# Altium integrated library TI Power Management Linear Regulator Single Channel LDO (0-350mA).IntLib: 1648 symbols (part 44 of 66)
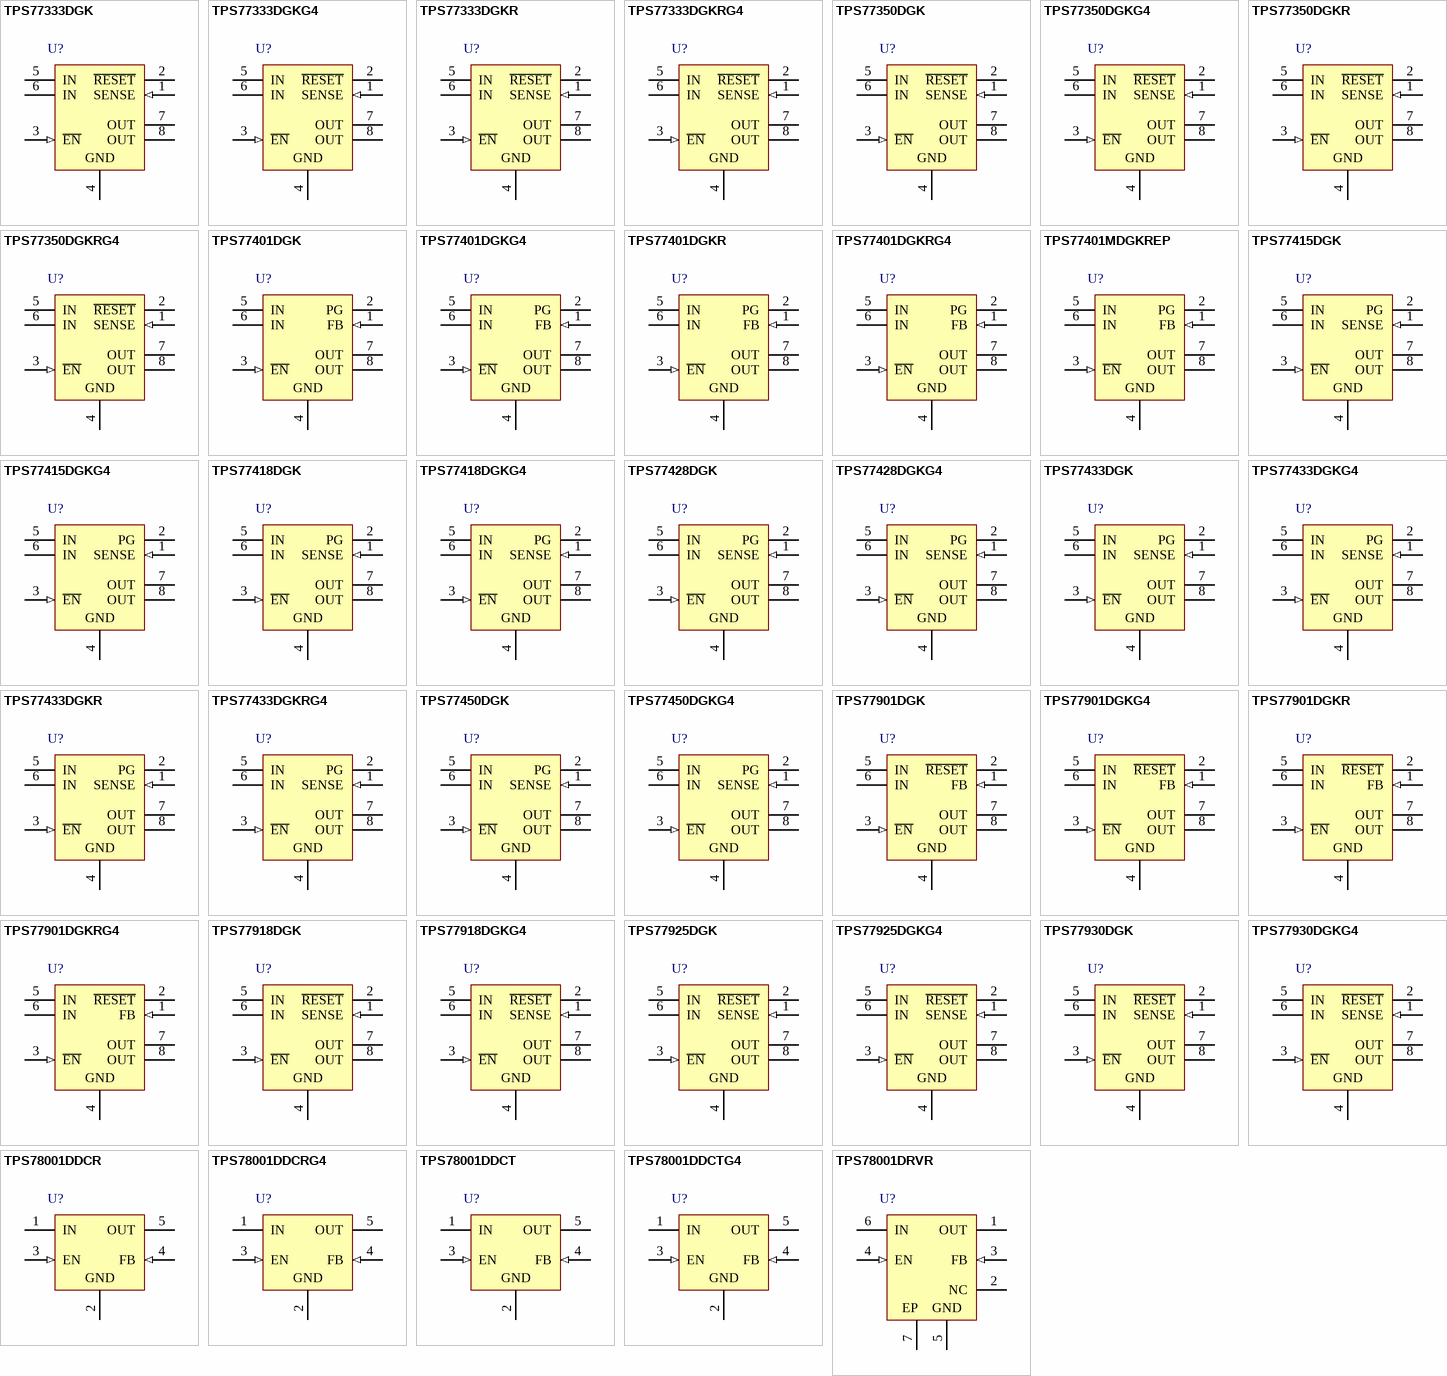
[diagram p85: symbols TPS77333DGK to TPS78001DRVR]

## TPS77401MDGKREP
designator U?
Single Output LDO, 250 mA, Adjustable 1.5 to 5.5 V Output, 2.7 to 10 V Input, with Power Good Output, 8-pin MSOP (DGK), -55 to 125 degC, Green (RoHS & no Sb/Br); Manufacturer: Texas Instruments; PartNumber: TPS77401MDGKREP; Accuracy(%): 2; Iout(Max)(A): 0.25; Iq(Typ)(mA): 0.09; Power Good: TRUE; SubFamily: Single Channel LDO; Vdo(Typ)(mV): 200; Vin(Max)(V): 10; Vin(Min)(V): 2.7; Vout Adj(Max)(V): 5.5; Vout Adj(Min)(V): 1.5; DatasheetVersion: SLVS702; PackageVersion: 4073329/E; PackageReference: DGK8; PackageDescription: 8-Pin Thin Small Outline Package 3 x 3 mm Body ,0.65 mm Pitch; Supplier 1: Digi-Key; Supplier Part Number 1: 296-22518-2-ND; Supplier 2: Digi-Key; Supplier Part Number 2: 296-22518-1-ND; Supplier 3: Digi-Key; Supplier Part Number 3: 296-22518-6-ND; Supplier 4: Newark; Supplier Part Number 4: 46M1187; Supplier 5: Mouser; Supplier Part Number 5: 595-TPS77401MDGKREP; Eco-Plan: Green (RoHS & no Sb/Br); Mounting Technology: Surface Mount; Code_JEDEC: MO-187; ComponentLink1Description: Manufacturer URL; ComponentLink1URL: http://www.ti.com/; ComponentLink2Description: Datasheet; ComponentLink2URL: http://www.ti.com/general/docs/lit/getliterature.tsp?genericPartNumber=TPS77401-EP&fileType=pdf; ComponentLink3Description: Package Specification; ComponentLink3URL: http://www.ti.com/litv/pdf/mpds028d
footprint TI-DGK8_N (SOP, 8-Leads, Body 3x3mm, Pitch 0.65mm, IPC Medium Density)
footprint TI-DGK8_L (SOP, 8-Leads, Body 3x3mm, Pitch 0.65mm, IPC High Density)
footprint TI-DGK8_M (SOP, 8-Leads, Body 3x3mm, Pitch 0.65mm, IPC Low Density)
pins: 1 FB (in) "Feedback input voltage for adjustable device", 2 PG (hiz) "Power good", 3 ~{EN} (in) "Enable input", 4 GND (power) "Regulator ground", 5 IN (power) "Input voltage", 6 IN (power) "Input voltage", 7 OUT (power) "Regulated output voltage", 8 OUT (power) "Regulated output voltage"

## TPS77415DGK
designator U?
Single Output Fast Transient Response LDO, 250 mA, Fixed 1.5 V Output, 2.7 to 10 V Input, with Power Good Output, 8-pin MSOP (DGK), -40 to 125 degC, Green (RoHS & no Sb/Br); Manufacturer: Texas Instruments; PartNumber: TPS77415DGK; Accuracy(%): 2; Fixed Output Options(V): 1.5; Iout(Max)(A): 0.25; Iq(Typ)(mA): 0.09; Power Good: TRUE; SubFamily: Single Channel LDO; Vdo(Typ)(mV): 200; Vin(Max)(V): 10; Vin(Min)(V): 2.7; DatasheetVersion: SLVS281E; PackageVersion: 4073329/E; PackageReference: DGK8; PackageDescription: 8-Pin Thin Small Outline Package 3 x 3 mm Body ,0.65 mm Pitch; Supplier 1: Digi-Key; Supplier Part Number 1: 296-8116-5-ND; Supplier 2: Mouser; Supplier Part Number 2: 595-TPS77415DGK; Eco-Plan: Green (RoHS & no Sb/Br); Vout Adj(Max)(V): 1.5; Vout Adj(Min)(V): 1.5; Mounting Technology: Surface Mount; Code_JEDEC: MO-187; ComponentLink1Description: Manufacturer URL; ComponentLink1URL: http://www.ti.com/; ComponentLink2Description: Datasheet; ComponentLink2URL: http://www.ti.com/general/docs/lit/getliterature.tsp?genericPartNumber=TPS77415&fileType=pdf; ComponentLink3Description: Package Specification; ComponentLink3URL: http://www.ti.com/litv/pdf/mpds028d
footprint TI-DGK8_N (SOP, 8-Leads, Body 3x3mm, Pitch 0.65mm, IPC Medium Density)
footprint TI-DGK8_L (SOP, 8-Leads, Body 3x3mm, Pitch 0.65mm, IPC High Density)
footprint TI-DGK8_M (SOP, 8-Leads, Body 3x3mm, Pitch 0.65mm, IPC Low Density)
pins: 1 SENSE (in) "Sense input", 2 PG (hiz) "Power good", 3 ~{EN} (in) "Enable input", 4 GND (power) "Regulator ground", 5 IN (power) "Input voltage", 6 IN (power) "Input voltage", 7 OUT (power) "Regulated output voltage", 8 OUT (power) "Regulated output voltage"

## TPS77415DGKG4
designator U?
Single Output Fast Transient Response LDO, 250 mA, Fixed 1.5 V Output, 2.7 to 10 V Input, with Power Good Output, 8-pin MSOP (DGK), -40 to 125 degC, Green (RoHS & no Sb/Br); Manufacturer: Texas Instruments; PartNumber: TPS77415DGKG4; Accuracy(%): 2; Fixed Output Options(V): 1.5; Iout(Max)(A): 0.25; Iq(Typ)(mA): 0.09; Power Good: TRUE; SubFamily: Single Channel LDO; Vdo(Typ)(mV): 200; Vin(Max)(V): 10; Vin(Min)(V): 2.7; DatasheetVersion: SLVS281E; PackageVersion: 4073329/E; PackageReference: DGK8; PackageDescription: 8-Pin Thin Small Outline Package 3 x 3 mm Body ,0.65 mm Pitch; Supplier 1: Digi-Key; Supplier Part Number 1: TPS77415DGKG4-ND; Supplier 2: Newark; Supplier Part Number 2: 28M7839; Supplier 3: Mouser; Supplier Part Number 3: 595-TPS77415DGKG4; Eco-Plan: Green (RoHS & no Sb/Br); Vout Adj(Max)(V): 1.5; Vout Adj(Min)(V): 1.5; Mounting Technology: Surface Mount; Code_JEDEC: MO-187; ComponentLink1Description: Manufacturer URL; ComponentLink1URL: http://www.ti.com/; ComponentLink2Description: Datasheet; ComponentLink2URL: http://www.ti.com/general/docs/lit/getliterature.tsp?genericPartNumber=TPS77415&fileType=pdf; ComponentLink3Description: Package Specification; ComponentLink3URL: http://www.ti.com/litv/pdf/mpds028d
footprint TI-DGK8_N (SOP, 8-Leads, Body 3x3mm, Pitch 0.65mm, IPC Medium Density)
footprint TI-DGK8_L (SOP, 8-Leads, Body 3x3mm, Pitch 0.65mm, IPC High Density)
footprint TI-DGK8_M (SOP, 8-Leads, Body 3x3mm, Pitch 0.65mm, IPC Low Density)
pins: 1 SENSE (in) "Sense input", 2 PG (hiz) "Power good", 3 ~{EN} (in) "Enable input", 4 GND (power) "Regulator ground", 5 IN (power) "Input voltage", 6 IN (power) "Input voltage", 7 OUT (power) "Regulated output voltage", 8 OUT (power) "Regulated output voltage"

## TPS77418DGK
designator U?
Single Output Fast Transient Response LDO, 250 mA, Fixed 2.7 V Output, 2.7 to 10 V Input, with Power Good Output, 8-pin MSOP (DGK), -40 to 125 degC, Green (RoHS & no Sb/Br); Manufacturer: Texas Instruments; PartNumber: TPS77418DGK; Accuracy(%): 2; Fixed Output Options(V): 1.8; Iout(Max)(A): 0.25; Iq(Typ)(mA): 0.09; Power Good: TRUE; SubFamily: Single Channel LDO; Vdo(Typ)(mV): 200; Vin(Max)(V): 10; Vin(Min)(V): 2.7; DatasheetVersion: SLVS281E; PackageVersion: 4073329/E; PackageReference: DGK8; PackageDescription: 8-Pin Thin Small Outline Package 3 x 3 mm Body ,0.65 mm Pitch; Supplier 1: Digi-Key; Supplier Part Number 1: 296-8117-5-ND; Supplier 2: Mouser; Supplier Part Number 2: 595-TPS77418DGK; Eco-Plan: Green (RoHS & no Sb/Br); Vout Adj(Max)(V): 1.8; Vout Adj(Min)(V): 1.8; Mounting Technology: Surface Mount; Code_JEDEC: MO-187; ComponentLink1Description: Manufacturer URL; ComponentLink1URL: http://www.ti.com/; ComponentLink2Description: Datasheet; ComponentLink2URL: http://www.ti.com/general/docs/lit/getliterature.tsp?genericPartNumber=TPS77418&fileType=pdf; ComponentLink3Description: Package Specification; ComponentLink3URL: http://www.ti.com/litv/pdf/mpds028d
footprint TI-DGK8_N (SOP, 8-Leads, Body 3x3mm, Pitch 0.65mm, IPC Medium Density)
footprint TI-DGK8_L (SOP, 8-Leads, Body 3x3mm, Pitch 0.65mm, IPC High Density)
footprint TI-DGK8_M (SOP, 8-Leads, Body 3x3mm, Pitch 0.65mm, IPC Low Density)
pins: 1 SENSE (in) "Sense input", 2 PG (hiz) "Power good", 3 ~{EN} (in) "Enable input", 4 GND (power) "Regulator ground", 5 IN (power) "Input voltage", 6 IN (power) "Input voltage", 7 OUT (power) "Regulated output voltage", 8 OUT (power) "Regulated output voltage"

## TPS77418DGKG4
designator U?
Single Output Fast Transient Response LDO, 250 mA, Fixed 2.7 V Output, 2.7 to 10 V Input, with Power Good Output, 8-pin MSOP (DGK), -40 to 125 degC, Green (RoHS & no Sb/Br); Manufacturer: Texas Instruments; PartNumber: TPS77418DGKG4; Accuracy(%): 2; Fixed Output Options(V): 1.8; Iout(Max)(A): 0.25; Iq(Typ)(mA): 0.09; Power Good: TRUE; SubFamily: Single Channel LDO; Vdo(Typ)(mV): 200; Vin(Max)(V): 10; Vin(Min)(V): 2.7; DatasheetVersion: SLVS281E; PackageVersion: 4073329/E; PackageReference: DGK8; PackageDescription: 8-Pin Thin Small Outline Package 3 x 3 mm Body ,0.65 mm Pitch; Supplier 1: Digi-Key; Supplier Part Number 1: TPS77418DGKG4-ND; Supplier 2: Mouser; Supplier Part Number 2: 595-TPS77418DGKG4; Eco-Plan: Green (RoHS & no Sb/Br); Vout Adj(Max)(V): 1.8; Vout Adj(Min)(V): 1.8; Mounting Technology: Surface Mount; Code_JEDEC: MO-187; ComponentLink1Description: Manufacturer URL; ComponentLink1URL: http://www.ti.com/; ComponentLink2Description: Datasheet; ComponentLink2URL: http://www.ti.com/general/docs/lit/getliterature.tsp?genericPartNumber=TPS77418&fileType=pdf; ComponentLink3Description: Package Specification; ComponentLink3URL: http://www.ti.com/litv/pdf/mpds028d
footprint TI-DGK8_N (SOP, 8-Leads, Body 3x3mm, Pitch 0.65mm, IPC Medium Density)
footprint TI-DGK8_L (SOP, 8-Leads, Body 3x3mm, Pitch 0.65mm, IPC High Density)
footprint TI-DGK8_M (SOP, 8-Leads, Body 3x3mm, Pitch 0.65mm, IPC Low Density)
pins: 1 SENSE (in) "Sense input", 2 PG (hiz) "Power good", 3 ~{EN} (in) "Enable input", 4 GND (power) "Regulator ground", 5 IN (power) "Input voltage", 6 IN (power) "Input voltage", 7 OUT (power) "Regulated output voltage", 8 OUT (power) "Regulated output voltage"

## TPS77428DGK
designator U?
Single Output Fast Transient Response LDO, 250 mA, Fixed 3.3 V Output, 2.7 to 10 V Input, with Power Good Output, 8-pin MSOP (DGK), -40 to 125 degC, Green (RoHS & no Sb/Br); Manufacturer: Texas Instruments; PartNumber: TPS77428DGK; Accuracy(%): 2; Fixed Output Options(V): 2.8; Iout(Max)(A): 0.25; Iq(Typ)(mA): 0.09; Power Good: TRUE; SubFamily: Single Channel LDO; Vdo(Typ)(mV): 270; Vin(Max)(V): 10; Vin(Min)(V): 2.7; DatasheetVersion: SLVS281E; PackageVersion: 4073329/E; PackageReference: DGK8; PackageDescription: 8-Pin Thin Small Outline Package 3 x 3 mm Body ,0.65 mm Pitch; Supplier 1: Digi-Key; Supplier Part Number 1: 296-8119-5-ND; Supplier 2: Mouser; Supplier Part Number 2: 595-TPS77428DGK; Eco-Plan: Green (RoHS & no Sb/Br); Vout Adj(Max)(V): 2.8; Vout Adj(Min)(V): 2.8; Mounting Technology: Surface Mount; Code_JEDEC: MO-187; ComponentLink1Description: Manufacturer URL; ComponentLink1URL: http://www.ti.com/; ComponentLink2Description: Datasheet; ComponentLink2URL: http://www.ti.com/general/docs/lit/getliterature.tsp?genericPartNumber=TPS77428&fileType=pdf; ComponentLink3Description: Package Specification; ComponentLink3URL: http://www.ti.com/litv/pdf/mpds028d
footprint TI-DGK8_N (SOP, 8-Leads, Body 3x3mm, Pitch 0.65mm, IPC Medium Density)
footprint TI-DGK8_L (SOP, 8-Leads, Body 3x3mm, Pitch 0.65mm, IPC High Density)
footprint TI-DGK8_M (SOP, 8-Leads, Body 3x3mm, Pitch 0.65mm, IPC Low Density)
pins: 1 SENSE (in) "Sense input", 2 PG (hiz) "Power good", 3 ~{EN} (in) "Enable input", 4 GND (power) "Regulator ground", 5 IN (power) "Input voltage", 6 IN (power) "Input voltage", 7 OUT (power) "Regulated output voltage", 8 OUT (power) "Regulated output voltage"

## TPS77428DGKG4
designator U?
Single Output Fast Transient Response LDO, 250 mA, Fixed 3.3 V Output, 2.7 to 10 V Input, with Power Good Output, 8-pin MSOP (DGK), -40 to 125 degC, Green (RoHS & no Sb/Br); Manufacturer: Texas Instruments; PartNumber: TPS77428DGKG4; Accuracy(%): 2; Fixed Output Options(V): 2.8; Iout(Max)(A): 0.25; Iq(Typ)(mA): 0.09; Power Good: TRUE; SubFamily: Single Channel LDO; Vdo(Typ)(mV): 270; Vin(Max)(V): 10; Vin(Min)(V): 2.7; DatasheetVersion: SLVS281E; PackageVersion: 4073329/E; PackageReference: DGK8; PackageDescription: 8-Pin Thin Small Outline Package 3 x 3 mm Body ,0.65 mm Pitch; Supplier 1: Digi-Key; Supplier Part Number 1: TPS77428DGKG4-ND; Supplier 2: Mouser; Supplier Part Number 2: 595-TPS77428DGKG4; Eco-Plan: Green (RoHS & no Sb/Br); Vout Adj(Max)(V): 2.8; Vout Adj(Min)(V): 2.8; Mounting Technology: Surface Mount; Code_JEDEC: MO-187; ComponentLink1Description: Manufacturer URL; ComponentLink1URL: http://www.ti.com/; ComponentLink2Description: Datasheet; ComponentLink2URL: http://www.ti.com/general/docs/lit/getliterature.tsp?genericPartNumber=TPS77428&fileType=pdf; ComponentLink3Description: Package Specification; ComponentLink3URL: http://www.ti.com/litv/pdf/mpds028d
footprint TI-DGK8_N (SOP, 8-Leads, Body 3x3mm, Pitch 0.65mm, IPC Medium Density)
footprint TI-DGK8_L (SOP, 8-Leads, Body 3x3mm, Pitch 0.65mm, IPC High Density)
footprint TI-DGK8_M (SOP, 8-Leads, Body 3x3mm, Pitch 0.65mm, IPC Low Density)
pins: 1 SENSE (in) "Sense input", 2 PG (hiz) "Power good", 3 ~{EN} (in) "Enable input", 4 GND (power) "Regulator ground", 5 IN (power) "Input voltage", 6 IN (power) "Input voltage", 7 OUT (power) "Regulated output voltage", 8 OUT (power) "Regulated output voltage"

## TPS77433DGK
designator U?
Single Output Fast Transient Response LDO, 250 mA, Fixed 3.3 V Output, 2.7 to 10 V Input, with Power Good Output, 8-pin MSOP (DGK), -40 to 125 degC, Green (RoHS & no Sb/Br); Manufacturer: Texas Instruments; PartNumber: TPS77433DGK; Accuracy(%): 2; Fixed Output Options(V): 3.3; Iout(Max)(A): 0.25; Iq(Typ)(mA): 0.09; Power Good: TRUE; SubFamily: Single Channel LDO; Vdo(Typ)(mV): 200; Vin(Max)(V): 10; Vin(Min)(V): 2.7; DatasheetVersion: SLVS281E; PackageVersion: 4073329/E; PackageReference: DGK8; PackageDescription: 8-Pin Thin Small Outline Package 3 x 3 mm Body ,0.65 mm Pitch; Supplier 1: Digi-Key; Supplier Part Number 1: 296-8120-5-ND; Supplier 2: Newark; Supplier Part Number 2: 77C1238; Supplier 3: Mouser; Supplier Part Number 3: 595-TPS77433DGK; Eco-Plan: Green (RoHS & no Sb/Br); Vout Adj(Max)(V): 3.3; Vout Adj(Min)(V): 3.3; Mounting Technology: Surface Mount; Code_JEDEC: MO-187; ComponentLink1Description: Manufacturer URL; ComponentLink1URL: http://www.ti.com/; ComponentLink2Description: Datasheet; ComponentLink2URL: http://www.ti.com/general/docs/lit/getliterature.tsp?genericPartNumber=TPS77433&fileType=pdf; ComponentLink3Description: Package Specification; ComponentLink3URL: http://www.ti.com/litv/pdf/mpds028d
footprint TI-DGK8_N (SOP, 8-Leads, Body 3x3mm, Pitch 0.65mm, IPC Medium Density)
footprint TI-DGK8_L (SOP, 8-Leads, Body 3x3mm, Pitch 0.65mm, IPC High Density)
footprint TI-DGK8_M (SOP, 8-Leads, Body 3x3mm, Pitch 0.65mm, IPC Low Density)
pins: 1 SENSE (in) "Sense input", 2 PG (hiz) "Power good", 3 ~{EN} (in) "Enable input", 4 GND (power) "Regulator ground", 5 IN (power) "Input voltage", 6 IN (power) "Input voltage", 7 OUT (power) "Regulated output voltage", 8 OUT (power) "Regulated output voltage"

## TPS77433DGKG4
designator U?
Single Output Fast Transient Response LDO, 250 mA, Fixed 3.3 V Output, 2.7 to 10 V Input, with Power Good Output, 8-pin MSOP (DGK), -40 to 125 degC, Green (RoHS & no Sb/Br); Manufacturer: Texas Instruments; PartNumber: TPS77433DGKG4; Accuracy(%): 2; Fixed Output Options(V): 3.3; Iout(Max)(A): 0.25; Iq(Typ)(mA): 0.09; Power Good: TRUE; SubFamily: Single Channel LDO; Vdo(Typ)(mV): 200; Vin(Max)(V): 10; Vin(Min)(V): 2.7; DatasheetVersion: SLVS281E; PackageVersion: 4073329/E; PackageReference: DGK8; PackageDescription: 8-Pin Thin Small Outline Package 3 x 3 mm Body ,0.65 mm Pitch; Supplier 1: Digi-Key; Supplier Part Number 1: TPS77433DGKG4-ND; Supplier 2: Mouser; Supplier Part Number 2: 595-TPS77433DGKG4; Eco-Plan: Green (RoHS & no Sb/Br); Vout Adj(Max)(V): 3.3; Vout Adj(Min)(V): 3.3; Mounting Technology: Surface Mount; Code_JEDEC: MO-187; ComponentLink1Description: Manufacturer URL; ComponentLink1URL: http://www.ti.com/; ComponentLink2Description: Datasheet; ComponentLink2URL: http://www.ti.com/general/docs/lit/getliterature.tsp?genericPartNumber=TPS77433&fileType=pdf; ComponentLink3Description: Package Specification; ComponentLink3URL: http://www.ti.com/litv/pdf/mpds028d
footprint TI-DGK8_N (SOP, 8-Leads, Body 3x3mm, Pitch 0.65mm, IPC Medium Density)
footprint TI-DGK8_L (SOP, 8-Leads, Body 3x3mm, Pitch 0.65mm, IPC High Density)
footprint TI-DGK8_M (SOP, 8-Leads, Body 3x3mm, Pitch 0.65mm, IPC Low Density)
pins: 1 SENSE (in) "Sense input", 2 PG (hiz) "Power good", 3 ~{EN} (in) "Enable input", 4 GND (power) "Regulator ground", 5 IN (power) "Input voltage", 6 IN (power) "Input voltage", 7 OUT (power) "Regulated output voltage", 8 OUT (power) "Regulated output voltage"

## TPS77433DGKR
designator U?
Single Output Fast Transient Response LDO, 250 mA, Fixed 3.3 V Output, 2.7 to 10 V Input, with Power Good Output, 8-pin MSOP (DGK), -40 to 125 degC, Green (RoHS & no Sb/Br); Manufacturer: Texas Instruments; PartNumber: TPS77433DGKR; Accuracy(%): 2; Fixed Output Options(V): 3.3; Iout(Max)(A): 0.25; Iq(Typ)(mA): 0.09; Power Good: TRUE; SubFamily: Single Channel LDO; Vdo(Typ)(mV): 200; Vin(Max)(V): 10; Vin(Min)(V): 2.7; DatasheetVersion: SLVS281E; PackageVersion: 4073329/E; PackageReference: DGK8; PackageDescription: 8-Pin Thin Small Outline Package 3 x 3 mm Body ,0.65 mm Pitch; Supplier 1: Digi-Key; Supplier Part Number 1: TPS77433DGKR-ND; Supplier 2: Newark; Supplier Part Number 2: 77C1239; Supplier 3: Mouser; Supplier Part Number 3: 595-TPS77433DGKR; Eco-Plan: Green (RoHS & no Sb/Br); Vout Adj(Max)(V): 3.3; Vout Adj(Min)(V): 3.3; Mounting Technology: Surface Mount; Code_JEDEC: MO-187; ComponentLink1Description: Manufacturer URL; ComponentLink1URL: http://www.ti.com/; ComponentLink2Description: Datasheet; ComponentLink2URL: http://www.ti.com/general/docs/lit/getliterature.tsp?genericPartNumber=TPS77433&fileType=pdf; ComponentLink3Description: Package Specification; ComponentLink3URL: http://www.ti.com/litv/pdf/mpds028d
footprint TI-DGK8_N (SOP, 8-Leads, Body 3x3mm, Pitch 0.65mm, IPC Medium Density)
footprint TI-DGK8_L (SOP, 8-Leads, Body 3x3mm, Pitch 0.65mm, IPC High Density)
footprint TI-DGK8_M (SOP, 8-Leads, Body 3x3mm, Pitch 0.65mm, IPC Low Density)
pins: 1 SENSE (in) "Sense input", 2 PG (hiz) "Power good", 3 ~{EN} (in) "Enable input", 4 GND (power) "Regulator ground", 5 IN (power) "Input voltage", 6 IN (power) "Input voltage", 7 OUT (power) "Regulated output voltage", 8 OUT (power) "Regulated output voltage"

## TPS77433DGKRG4
designator U?
Single Output Fast Transient Response LDO, 250 mA, Fixed 3.3 V Output, 2.7 to 10 V Input, with Power Good Output, 8-pin MSOP (DGK), -40 to 125 degC, Green (RoHS & no Sb/Br); Manufacturer: Texas Instruments; PartNumber: TPS77433DGKRG4; Accuracy(%): 2; Fixed Output Options(V): 3.3; Iout(Max)(A): 0.25; Iq(Typ)(mA): 0.09; Power Good: TRUE; SubFamily: Single Channel LDO; Vdo(Typ)(mV): 200; Vin(Max)(V): 10; Vin(Min)(V): 2.7; DatasheetVersion: SLVS281E; PackageVersion: 4073329/E; PackageReference: DGK8; PackageDescription: 8-Pin Thin Small Outline Package 3 x 3 mm Body ,0.65 mm Pitch; Supplier 1: Digi-Key; Supplier Part Number 1: TPS77433DGKRG4-ND; Supplier 2: Mouser; Supplier Part Number 2: 595-TPS77433DGKRG4; Eco-Plan: Green (RoHS & no Sb/Br); Vout Adj(Max)(V): 3.3; Vout Adj(Min)(V): 3.3; Mounting Technology: Surface Mount; Code_JEDEC: MO-187; ComponentLink1Description: Manufacturer URL; ComponentLink1URL: http://www.ti.com/; ComponentLink2Description: Datasheet; ComponentLink2URL: http://www.ti.com/general/docs/lit/getliterature.tsp?genericPartNumber=TPS77433&fileType=pdf; ComponentLink3Description: Package Specification; ComponentLink3URL: http://www.ti.com/litv/pdf/mpds028d
footprint TI-DGK8_N (SOP, 8-Leads, Body 3x3mm, Pitch 0.65mm, IPC Medium Density)
footprint TI-DGK8_L (SOP, 8-Leads, Body 3x3mm, Pitch 0.65mm, IPC High Density)
footprint TI-DGK8_M (SOP, 8-Leads, Body 3x3mm, Pitch 0.65mm, IPC Low Density)
pins: 1 SENSE (in) "Sense input", 2 PG (hiz) "Power good", 3 ~{EN} (in) "Enable input", 4 GND (power) "Regulator ground", 5 IN (power) "Input voltage", 6 IN (power) "Input voltage", 7 OUT (power) "Regulated output voltage", 8 OUT (power) "Regulated output voltage"

## TPS77450DGK
designator U?
Single Output Fast Transient Response LDO, 250 mA, Fixed 5 V Output, 2.7 to 10 V Input, with Power Good Output, 8-pin MSOP (DGK), -40 to 125 degC, Green (RoHS & no Sb/Br); Manufacturer: Texas Instruments; PartNumber: TPS77450DGK; Accuracy(%): 2; Fixed Output Options(V): 5; Iout(Max)(A): 0.25; Iq(Typ)(mA): 0.09; Power Good: TRUE; Rating: Catalog; SubFamily: Single Channel LDO; Vdo(Typ)(mV): 125; Vin(Max)(V): 10; Vin(Min)(V): 2.7; DatasheetVersion: SLVS281E; PackageVersion: 4073329/E; PackageReference: DGK8; PackageDescription: 8-Pin Thin Small Outline Package 3 x 3 mm Body ,0.65 mm Pitch; Supplier 1: Digi-Key; Supplier Part Number 1: 296-8121-5-ND; Supplier 2: Newark; Supplier Part Number 2: 77C1240; Supplier 3: Mouser; Supplier Part Number 3: 595-TPS77450DGK; Eco-Plan: Green (RoHS & no Sb/Br); Vout Adj(Max)(V): 5; Vout Adj(Min)(V): 5; Mounting Technology: Surface Mount; Code_JEDEC: MO-187; ComponentLink1Description: Manufacturer URL; ComponentLink1URL: http://www.ti.com/; ComponentLink2Description: Datasheet; ComponentLink2URL: http://www.ti.com/general/docs/lit/getliterature.tsp?genericPartNumber=TPS77450&fileType=pdf; ComponentLink3Description: Package Specification; ComponentLink3URL: http://www.ti.com/litv/pdf/mpds028d
footprint TI-DGK8_N (SOP, 8-Leads, Body 3x3mm, Pitch 0.65mm, IPC Medium Density)
footprint TI-DGK8_L (SOP, 8-Leads, Body 3x3mm, Pitch 0.65mm, IPC High Density)
footprint TI-DGK8_M (SOP, 8-Leads, Body 3x3mm, Pitch 0.65mm, IPC Low Density)
pins: 1 SENSE (in) "Sense input", 2 PG (hiz) "Power good", 3 ~{EN} (in) "Enable input", 4 GND (power) "Regulator ground", 5 IN (power) "Input voltage", 6 IN (power) "Input voltage", 7 OUT (power) "Regulated output voltage", 8 OUT (power) "Regulated output voltage"

## TPS77450DGKG4
designator U?
Single Output Fast Transient Response LDO, 250 mA, Fixed 5 V Output, 2.7 to 10 V Input, with Power Good Output, 8-pin MSOP (DGK), -40 to 125 degC, Green (RoHS & no Sb/Br); Manufacturer: Texas Instruments; PartNumber: TPS77450DGKG4; Accuracy(%): 2; Fixed Output Options(V): 5; Iout(Max)(A): 0.25; Iq(Typ)(mA): 0.09; Power Good: TRUE; Rating: Catalog; SubFamily: Single Channel LDO; Vdo(Typ)(mV): 125; Vin(Max)(V): 10; Vin(Min)(V): 2.7; DatasheetVersion: SLVS281E; PackageVersion: 4073329/E; PackageReference: DGK8; PackageDescription: 8-Pin Thin Small Outline Package 3 x 3 mm Body ,0.65 mm Pitch; Supplier 1: Digi-Key; Supplier Part Number 1: TPS77450DGKG4-ND; Supplier 2: Newark; Supplier Part Number 2: 70K5787; Supplier 3: Mouser; Supplier Part Number 3: 595-TPS77450DGKG4; Eco-Plan: Green (RoHS & no Sb/Br); Vout Adj(Max)(V): 5; Vout Adj(Min)(V): 5; Mounting Technology: Surface Mount; Code_JEDEC: MO-187; ComponentLink1Description: Manufacturer URL; ComponentLink1URL: http://www.ti.com/; ComponentLink2Description: Datasheet; ComponentLink2URL: http://www.ti.com/general/docs/lit/getliterature.tsp?genericPartNumber=TPS77450&fileType=pdf; ComponentLink3Description: Package Specification; ComponentLink3URL: http://www.ti.com/litv/pdf/mpds028d
footprint TI-DGK8_N (SOP, 8-Leads, Body 3x3mm, Pitch 0.65mm, IPC Medium Density)
footprint TI-DGK8_L (SOP, 8-Leads, Body 3x3mm, Pitch 0.65mm, IPC High Density)
footprint TI-DGK8_M (SOP, 8-Leads, Body 3x3mm, Pitch 0.65mm, IPC Low Density)
pins: 1 SENSE (in) "Sense input", 2 PG (hiz) "Power good", 3 ~{EN} (in) "Enable input", 4 GND (power) "Regulator ground", 5 IN (power) "Input voltage", 6 IN (power) "Input voltage", 7 OUT (power) "Regulated output voltage", 8 OUT (power) "Regulated output voltage"

## TPS77901DGK
designator U?
Single Output Fast Transient Response LDO, 250 mA, Adjustable 1.5 to 5.5 V Output, 2.7 to 10 V Input, with Low IQ, 8-pin MSOP (DGK), -40 to 125 degC, Green (RoHS & no Sb/Br); Manufacturer: Texas Instruments; PartNumber: TPS77901DGK; Accuracy(%): 2; Iout(Max)(A): 0.25; Iq(Typ)(mA): 0.09; SubFamily: Single Channel LDO; Vdo(Typ)(mV): 250; Vin(Max)(V): 10; Vin(Min)(V): 2.7; Vout Adj(Max)(V): 5.5; Vout Adj(Min)(V): 1.5; DatasheetVersion: SLVS283D; PackageVersion: 4073329/E; PackageReference: DGK8; PackageDescription: 8-Pin Thin Small Outline Package 3 x 3 mm Body ,0.65 mm Pitch; Supplier 1: Digi-Key; Supplier Part Number 1: 296-8142-5-ND; Supplier 2: Newark; Supplier Part Number 2: 77C1309; Supplier 3: Mouser; Supplier Part Number 3: 595-TPS77901DGK; Eco-Plan: Green (RoHS & no Sb/Br); Mounting Technology: Surface Mount; Code_JEDEC: MO-187; ComponentLink1Description: Manufacturer URL; ComponentLink1URL: http://www.ti.com/; ComponentLink2Description: Datasheet; ComponentLink2URL: http://www.ti.com/general/docs/lit/getliterature.tsp?genericPartNumber=TPS77901&fileType=pdf; ComponentLink3Description: Package Specification; ComponentLink3URL: http://www.ti.com/litv/pdf/mpds028d
footprint TI-DGK8_N (SOP, 8-Leads, Body 3x3mm, Pitch 0.65mm, IPC Medium Density)
footprint TI-DGK8_L (SOP, 8-Leads, Body 3x3mm, Pitch 0.65mm, IPC High Density)
footprint TI-DGK8_M (SOP, 8-Leads, Body 3x3mm, Pitch 0.65mm, IPC Low Density)
pins: 1 FB (in) "Feedback input voltage for adjustable device", 2 ~{RESET} (hiz) "Reset output", 3 ~{EN} (in) "Enable input", 4 GND (power) "Regulator ground", 5 IN (power) "Input voltage", 6 IN (power) "Input voltage", 7 OUT (power) "Regulated output voltage", 8 OUT (power) "Regulated output voltage"

## TPS77901DGKG4
designator U?
Single Output Fast Transient Response LDO, 250 mA, Adjustable 1.5 to 5.5 V Output, 2.7 to 10 V Input, with Low IQ, 8-pin MSOP (DGK), -40 to 125 degC, Green (RoHS & no Sb/Br); Manufacturer: Texas Instruments; PartNumber: TPS77901DGKG4; Accuracy(%): 2; Iout(Max)(A): 0.25; Iq(Typ)(mA): 0.09; SubFamily: Single Channel LDO; Vdo(Typ)(mV): 250; Vin(Max)(V): 10; Vin(Min)(V): 2.7; Vout Adj(Max)(V): 5.5; Vout Adj(Min)(V): 1.5; DatasheetVersion: SLVS283D; PackageVersion: 4073329/E; PackageReference: DGK8; PackageDescription: 8-Pin Thin Small Outline Package 3 x 3 mm Body ,0.65 mm Pitch; Supplier 1: Digi-Key; Supplier Part Number 1: TPS77901DGKG4-ND; Supplier 2: Mouser; Supplier Part Number 2: 595-TPS77901DGKG4; Eco-Plan: Green (RoHS & no Sb/Br); Mounting Technology: Surface Mount; Code_JEDEC: MO-187; ComponentLink1Description: Manufacturer URL; ComponentLink1URL: http://www.ti.com/; ComponentLink2Description: Datasheet; ComponentLink2URL: http://www.ti.com/general/docs/lit/getliterature.tsp?genericPartNumber=TPS77901&fileType=pdf; ComponentLink3Description: Package Specification; ComponentLink3URL: http://www.ti.com/litv/pdf/mpds028d
footprint TI-DGK8_N (SOP, 8-Leads, Body 3x3mm, Pitch 0.65mm, IPC Medium Density)
footprint TI-DGK8_L (SOP, 8-Leads, Body 3x3mm, Pitch 0.65mm, IPC High Density)
footprint TI-DGK8_M (SOP, 8-Leads, Body 3x3mm, Pitch 0.65mm, IPC Low Density)
pins: 1 FB (in) "Feedback input voltage for adjustable device", 2 ~{RESET} (hiz) "Reset output", 3 ~{EN} (in) "Enable input", 4 GND (power) "Regulator ground", 5 IN (power) "Input voltage", 6 IN (power) "Input voltage", 7 OUT (power) "Regulated output voltage", 8 OUT (power) "Regulated output voltage"

## TPS77901DGKR
designator U?
Single Output Fast Transient Response LDO, 250 mA, Adjustable 1.5 to 5.5 V Output, 2.7 to 10 V Input, with Low IQ, 8-pin MSOP (DGK), -40 to 125 degC, Green (RoHS & no Sb/Br); Manufacturer: Texas Instruments; PartNumber: TPS77901DGKR; Accuracy(%): 2; Iout(Max)(A): 0.25; Iq(Typ)(mA): 0.09; SubFamily: Single Channel LDO; Vdo(Typ)(mV): 250; Vin(Max)(V): 10; Vin(Min)(V): 2.7; Vout Adj(Max)(V): 5.5; Vout Adj(Min)(V): 1.5; DatasheetVersion: SLVS283D; PackageVersion: 4073329/E; PackageReference: DGK8; PackageDescription: 8-Pin Thin Small Outline Package 3 x 3 mm Body ,0.65 mm Pitch; Supplier 1: Digi-Key; Supplier Part Number 1: TPS77901DGKR-ND; Supplier 2: Mouser; Supplier Part Number 2: 595-TPS77901DGKR; Eco-Plan: Green (RoHS & no Sb/Br); Mounting Technology: Surface Mount; Code_JEDEC: MO-187; ComponentLink1Description: Manufacturer URL; ComponentLink1URL: http://www.ti.com/; ComponentLink2Description: Datasheet; ComponentLink2URL: http://www.ti.com/general/docs/lit/getliterature.tsp?genericPartNumber=TPS77901&fileType=pdf; ComponentLink3Description: Package Specification; ComponentLink3URL: http://www.ti.com/litv/pdf/mpds028d
footprint TI-DGK8_N (SOP, 8-Leads, Body 3x3mm, Pitch 0.65mm, IPC Medium Density)
footprint TI-DGK8_L (SOP, 8-Leads, Body 3x3mm, Pitch 0.65mm, IPC High Density)
footprint TI-DGK8_M (SOP, 8-Leads, Body 3x3mm, Pitch 0.65mm, IPC Low Density)
pins: 1 FB (in) "Feedback input voltage for adjustable device", 2 ~{RESET} (hiz) "Reset output", 3 ~{EN} (in) "Enable input", 4 GND (power) "Regulator ground", 5 IN (power) "Input voltage", 6 IN (power) "Input voltage", 7 OUT (power) "Regulated output voltage", 8 OUT (power) "Regulated output voltage"

## TPS77901DGKRG4
designator U?
Single Output Fast Transient Response LDO, 250 mA, Adjustable 1.5 to 5.5 V Output, 2.7 to 10 V Input, with Low IQ, 8-pin MSOP (DGK), -40 to 125 degC, Green (RoHS & no Sb/Br); Manufacturer: Texas Instruments; PartNumber: TPS77901DGKRG4; Accuracy(%): 2; Iout(Max)(A): 0.25; Iq(Typ)(mA): 0.09; SubFamily: Single Channel LDO; Vdo(Typ)(mV): 250; Vin(Max)(V): 10; Vin(Min)(V): 2.7; Vout Adj(Max)(V): 5.5; Vout Adj(Min)(V): 1.5; DatasheetVersion: SLVS283D; PackageVersion: 4073329/E; PackageReference: DGK8; PackageDescription: 8-Pin Thin Small Outline Package 3 x 3 mm Body ,0.65 mm Pitch; Supplier 1: Digi-Key; Supplier Part Number 1: TPS77901DGKRG4-ND; Supplier 2: Mouser; Supplier Part Number 2: 595-TPS77901DGKRG4; Eco-Plan: Green (RoHS & no Sb/Br); Mounting Technology: Surface Mount; Code_JEDEC: MO-187; ComponentLink1Description: Manufacturer URL; ComponentLink1URL: http://www.ti.com/; ComponentLink2Description: Datasheet; ComponentLink2URL: http://www.ti.com/general/docs/lit/getliterature.tsp?genericPartNumber=TPS77901&fileType=pdf; ComponentLink3Description: Package Specification; ComponentLink3URL: http://www.ti.com/litv/pdf/mpds028d
footprint TI-DGK8_N (SOP, 8-Leads, Body 3x3mm, Pitch 0.65mm, IPC Medium Density)
footprint TI-DGK8_L (SOP, 8-Leads, Body 3x3mm, Pitch 0.65mm, IPC High Density)
footprint TI-DGK8_M (SOP, 8-Leads, Body 3x3mm, Pitch 0.65mm, IPC Low Density)
pins: 1 FB (in) "Feedback input voltage for adjustable device", 2 ~{RESET} (hiz) "Reset output", 3 ~{EN} (in) "Enable input", 4 GND (power) "Regulator ground", 5 IN (power) "Input voltage", 6 IN (power) "Input voltage", 7 OUT (power) "Regulated output voltage", 8 OUT (power) "Regulated output voltage"

## TPS77918DGK
designator U?
Single Output Fast Transient Response LDO, 250 mA, Fixed 1.8 V Output, 2.7 to 10 V Input, with Low IQ, 8-pin MSOP (DGK), -40 to 125 degC, Green (RoHS & no Sb/Br); Manufacturer: Texas Instruments; PartNumber: TPS77918DGK; Accuracy(%): 2; Fixed Output Options(V): 1.8; Iout(Max)(A): 0.25; Iq(Typ)(mA): 0.09; SubFamily: Single Channel LDO; Vdo(Typ)(mV): 250; Vin(Max)(V): 10; Vin(Min)(V): 2.7; DatasheetVersion: SLVS283D; PackageVersion: 4073329/E; PackageReference: DGK8; PackageDescription: 8-Pin Thin Small Outline Package 3 x 3 mm Body ,0.65 mm Pitch; Supplier 1: Digi-Key; Supplier Part Number 1: 296-8143-5-ND; Supplier 2: Newark; Supplier Part Number 2: 77C1311; Supplier 3: Mouser; Supplier Part Number 3: 595-TPS77918DGK; Eco-Plan: Green (RoHS & no Sb/Br); Vout Adj(Max)(V): 1.8; Vout Adj(Min)(V): 1.8; Mounting Technology: Surface Mount; Code_JEDEC: MO-187; ComponentLink1Description: Manufacturer URL; ComponentLink1URL: http://www.ti.com/; ComponentLink2Description: Datasheet; ComponentLink2URL: http://www.ti.com/general/docs/lit/getliterature.tsp?genericPartNumber=TPS77918&fileType=pdf; ComponentLink3Description: Package Specification; ComponentLink3URL: http://www.ti.com/litv/pdf/mpds028d
footprint TI-DGK8_N (SOP, 8-Leads, Body 3x3mm, Pitch 0.65mm, IPC Medium Density)
footprint TI-DGK8_L (SOP, 8-Leads, Body 3x3mm, Pitch 0.65mm, IPC High Density)
footprint TI-DGK8_M (SOP, 8-Leads, Body 3x3mm, Pitch 0.65mm, IPC Low Density)
pins: 1 SENSE (in) "Sense input", 2 ~{RESET} (hiz) "Reset output", 3 ~{EN} (in) "Enable input", 4 GND (power) "Regulator ground", 5 IN (power) "Input voltage", 6 IN (power) "Input voltage", 7 OUT (power) "Regulated output voltage", 8 OUT (power) "Regulated output voltage"

## TPS77918DGKG4
designator U?
Single Output Fast Transient Response LDO, 250 mA, Fixed 1.8 V Output, 2.7 to 10 V Input, with Low IQ, 8-pin MSOP (DGK), -40 to 125 degC, Green (RoHS & no Sb/Br); Manufacturer: Texas Instruments; PartNumber: TPS77918DGKG4; Accuracy(%): 2; Fixed Output Options(V): 1.8; Iout(Max)(A): 0.25; Iq(Typ)(mA): 0.09; SubFamily: Single Channel LDO; Vdo(Typ)(mV): 250; Vin(Max)(V): 10; Vin(Min)(V): 2.7; DatasheetVersion: SLVS283D; PackageVersion: 4073329/E; PackageReference: DGK8; PackageDescription: 8-Pin Thin Small Outline Package 3 x 3 mm Body ,0.65 mm Pitch; Supplier 1: Digi-Key; Supplier Part Number 1: TPS77918DGKG4-ND; Supplier 2: Newark; Supplier Part Number 2: 70K5794; Supplier 3: Mouser; Supplier Part Number 3: 595-TPS77918DGKG4; Eco-Plan: Green (RoHS & no Sb/Br); Vout Adj(Max)(V): 1.8; Vout Adj(Min)(V): 1.8; Mounting Technology: Surface Mount; Code_JEDEC: MO-187; ComponentLink1Description: Manufacturer URL; ComponentLink1URL: http://www.ti.com/; ComponentLink2Description: Datasheet; ComponentLink2URL: http://www.ti.com/general/docs/lit/getliterature.tsp?genericPartNumber=TPS77918&fileType=pdf; ComponentLink3Description: Package Specification; ComponentLink3URL: http://www.ti.com/litv/pdf/mpds028d
footprint TI-DGK8_N (SOP, 8-Leads, Body 3x3mm, Pitch 0.65mm, IPC Medium Density)
footprint TI-DGK8_L (SOP, 8-Leads, Body 3x3mm, Pitch 0.65mm, IPC High Density)
footprint TI-DGK8_M (SOP, 8-Leads, Body 3x3mm, Pitch 0.65mm, IPC Low Density)
pins: 1 SENSE (in) "Sense input", 2 ~{RESET} (hiz) "Reset output", 3 ~{EN} (in) "Enable input", 4 GND (power) "Regulator ground", 5 IN (power) "Input voltage", 6 IN (power) "Input voltage", 7 OUT (power) "Regulated output voltage", 8 OUT (power) "Regulated output voltage"

## TPS77925DGK
designator U?
Single Output Fast Transient Response LDO, 250 mA, Fixed 2.5 V Output, 2.7 to 10 V Input, with Low IQ, 8-pin MSOP (DGK), -40 to 125 degC, Green (RoHS & no Sb/Br); Manufacturer: Texas Instruments; PartNumber: TPS77925DGK; Accuracy(%): 2; Fixed Output Options(V): 2.5; Iout(Max)(A): 0.25; Iq(Typ)(mA): 0.09; SubFamily: Single Channel LDO; Vdo(Typ)(mV): 250; Vin(Max)(V): 10; Vin(Min)(V): 2.7; DatasheetVersion: SLVS283D; PackageVersion: 4073329/E; PackageReference: DGK8; PackageDescription: 8-Pin Thin Small Outline Package 3 x 3 mm Body ,0.65 mm Pitch; Supplier 1: Digi-Key; Supplier Part Number 1: 296-8144-5-ND; Supplier 2: Mouser; Supplier Part Number 2: 595-TPS77925DGK; Eco-Plan: Green (RoHS & no Sb/Br); Vout Adj(Max)(V): 2.5; Vout Adj(Min)(V): 2.5; Mounting Technology: Surface Mount; Code_JEDEC: MO-187; ComponentLink1Description: Manufacturer URL; ComponentLink1URL: http://www.ti.com/; ComponentLink2Description: Datasheet; ComponentLink2URL: http://www.ti.com/general/docs/lit/getliterature.tsp?genericPartNumber=TPS77925&fileType=pdf; ComponentLink3Description: Package Specification; ComponentLink3URL: http://www.ti.com/litv/pdf/mpds028d
footprint TI-DGK8_N (SOP, 8-Leads, Body 3x3mm, Pitch 0.65mm, IPC Medium Density)
footprint TI-DGK8_L (SOP, 8-Leads, Body 3x3mm, Pitch 0.65mm, IPC High Density)
footprint TI-DGK8_M (SOP, 8-Leads, Body 3x3mm, Pitch 0.65mm, IPC Low Density)
pins: 1 SENSE (in) "Sense input", 2 ~{RESET} (hiz) "Reset output", 3 ~{EN} (in) "Enable input", 4 GND (power) "Regulator ground", 5 IN (power) "Input voltage", 6 IN (power) "Input voltage", 7 OUT (power) "Regulated output voltage", 8 OUT (power) "Regulated output voltage"

## TPS77925DGKG4
designator U?
Single Output Fast Transient Response LDO, 250 mA, Fixed 2.5 V Output, 2.7 to 10 V Input, with Low IQ, 8-pin MSOP (DGK), -40 to 125 degC, Green (RoHS & no Sb/Br); Manufacturer: Texas Instruments; PartNumber: TPS77925DGKG4; Accuracy(%): 2; Fixed Output Options(V): 2.5; Iout(Max)(A): 0.25; Iq(Typ)(mA): 0.09; SubFamily: Single Channel LDO; Vdo(Typ)(mV): 250; Vin(Max)(V): 10; Vin(Min)(V): 2.7; DatasheetVersion: SLVS283D; PackageVersion: 4073329/E; PackageReference: DGK8; PackageDescription: 8-Pin Thin Small Outline Package 3 x 3 mm Body ,0.65 mm Pitch; Supplier 1: Digi-Key; Supplier Part Number 1: TPS77925DGKG4-ND; Supplier 2: Mouser; Supplier Part Number 2: 595-TPS77925DGKG4; Eco-Plan: Green (RoHS & no Sb/Br); Vout Adj(Max)(V): 2.5; Vout Adj(Min)(V): 2.5; Mounting Technology: Surface Mount; Code_JEDEC: MO-187; ComponentLink1Description: Manufacturer URL; ComponentLink1URL: http://www.ti.com/; ComponentLink2Description: Datasheet; ComponentLink2URL: http://www.ti.com/general/docs/lit/getliterature.tsp?genericPartNumber=TPS77925&fileType=pdf; ComponentLink3Description: Package Specification; ComponentLink3URL: http://www.ti.com/litv/pdf/mpds028d
footprint TI-DGK8_N (SOP, 8-Leads, Body 3x3mm, Pitch 0.65mm, IPC Medium Density)
footprint TI-DGK8_L (SOP, 8-Leads, Body 3x3mm, Pitch 0.65mm, IPC High Density)
footprint TI-DGK8_M (SOP, 8-Leads, Body 3x3mm, Pitch 0.65mm, IPC Low Density)
pins: 1 SENSE (in) "Sense input", 2 ~{RESET} (hiz) "Reset output", 3 ~{EN} (in) "Enable input", 4 GND (power) "Regulator ground", 5 IN (power) "Input voltage", 6 IN (power) "Input voltage", 7 OUT (power) "Regulated output voltage", 8 OUT (power) "Regulated output voltage"

## TPS77930DGK
designator U?
Single Output Fast Transient Response LDO, 250 mA, Fixed 3 V Output, 2.7 to 10 V Input, with Low IQ, 8-pin MSOP (DGK), -40 to 125 degC, Green (RoHS & no Sb/Br); Manufacturer: Texas Instruments; PartNumber: TPS77930DGK; Accuracy(%): 2; Fixed Output Options(V): 3; Iout(Max)(A): 0.25; Iq(Typ)(mA): 0.09; SubFamily: Single Channel LDO; Vdo(Typ)(mV): 250; Vin(Max)(V): 10; Vin(Min)(V): 2.7; DatasheetVersion: SLVS283D; PackageVersion: 4073329/E; PackageReference: DGK8; PackageDescription: 8-Pin Thin Small Outline Package 3 x 3 mm Body ,0.65 mm Pitch; Supplier 1: Digi-Key; Supplier Part Number 1: 296-8145-5-ND; Supplier 2: Newark; Supplier Part Number 2: 77C1315; Supplier 3: Mouser; Supplier Part Number 3: 595-TPS77930DGK; Eco-Plan: Green (RoHS & no Sb/Br); Vout Adj(Max)(V): 3; Vout Adj(Min)(V): 3; Mounting Technology: Surface Mount; Code_JEDEC: MO-187; ComponentLink1Description: Manufacturer URL; ComponentLink1URL: http://www.ti.com/; ComponentLink2Description: Datasheet; ComponentLink2URL: http://www.ti.com/general/docs/lit/getliterature.tsp?genericPartNumber=TPS77930&fileType=pdf; ComponentLink3Description: Package Specification; ComponentLink3URL: http://www.ti.com/litv/pdf/mpds028d
footprint TI-DGK8_N (SOP, 8-Leads, Body 3x3mm, Pitch 0.65mm, IPC Medium Density)
footprint TI-DGK8_L (SOP, 8-Leads, Body 3x3mm, Pitch 0.65mm, IPC High Density)
footprint TI-DGK8_M (SOP, 8-Leads, Body 3x3mm, Pitch 0.65mm, IPC Low Density)
pins: 1 SENSE (in) "Sense input", 2 ~{RESET} (hiz) "Reset output", 3 ~{EN} (in) "Enable input", 4 GND (power) "Regulator ground", 5 IN (power) "Input voltage", 6 IN (power) "Input voltage", 7 OUT (power) "Regulated output voltage", 8 OUT (power) "Regulated output voltage"

## TPS77930DGKG4
designator U?
Single Output Fast Transient Response LDO, 250 mA, Fixed 3 V Output, 2.7 to 10 V Input, with Low IQ, 8-pin MSOP (DGK), -40 to 125 degC, Green (RoHS & no Sb/Br); Manufacturer: Texas Instruments; PartNumber: TPS77930DGKG4; Accuracy(%): 2; Fixed Output Options(V): 3; Iout(Max)(A): 0.25; Iq(Typ)(mA): 0.09; SubFamily: Single Channel LDO; Vdo(Typ)(mV): 250; Vin(Max)(V): 10; Vin(Min)(V): 2.7; DatasheetVersion: SLVS283D; PackageVersion: 4073329/E; PackageReference: DGK8; PackageDescription: 8-Pin Thin Small Outline Package 3 x 3 mm Body ,0.65 mm Pitch; Supplier 1: Digi-Key; Supplier Part Number 1: TPS77930DGKG4-ND; Supplier 2: Newark; Supplier Part Number 2: 80K3448; Supplier 3: Mouser; Supplier Part Number 3: 595-TPS77930DGKG4; Eco-Plan: Green (RoHS & no Sb/Br); Vout Adj(Max)(V): 3; Vout Adj(Min)(V): 3; Mounting Technology: Surface Mount; Code_JEDEC: MO-187; ComponentLink1Description: Manufacturer URL; ComponentLink1URL: http://www.ti.com/; ComponentLink2Description: Datasheet; ComponentLink2URL: http://www.ti.com/general/docs/lit/getliterature.tsp?genericPartNumber=TPS77930&fileType=pdf; ComponentLink3Description: Package Specification; ComponentLink3URL: http://www.ti.com/litv/pdf/mpds028d
footprint TI-DGK8_N (SOP, 8-Leads, Body 3x3mm, Pitch 0.65mm, IPC Medium Density)
footprint TI-DGK8_L (SOP, 8-Leads, Body 3x3mm, Pitch 0.65mm, IPC High Density)
footprint TI-DGK8_M (SOP, 8-Leads, Body 3x3mm, Pitch 0.65mm, IPC Low Density)
pins: 1 SENSE (in) "Sense input", 2 ~{RESET} (hiz) "Reset output", 3 ~{EN} (in) "Enable input", 4 GND (power) "Regulator ground", 5 IN (power) "Input voltage", 6 IN (power) "Input voltage", 7 OUT (power) "Regulated output voltage", 8 OUT (power) "Regulated output voltage"

## TPS78001DDCR
designator U?
Single Output LDO, 150 mA, Adjustable 1.22 to 5.25 V Output, 2.2 to 5.5 V Input, with 500 nA Quiescent Current, 5-pin SOT (DDC), -40 to 125 degC, Green (RoHS & no Sb/Br); Manufacturer: Texas Instruments; PartNumber: TPS78001DDCR; Accuracy(%): 3; Dynamic Voltage Scaling: TRUE; Iout(Max)(A): 0.15; Iq(Typ)(mA): 0.0005; SubFamily: Single Channel LDO; Vdo(Typ)(mV): 200; Vin(Max)(V): 5.5; Vin(Min)(V): 2.2; Vout Adj(Max)(V): 5.25; Vout Adj(Min)(V): 1.22; DatasheetVersion: SBVS083D; PackageVersion: 4204403-2/E; PackageReference: DDC5; PackageDescription: 5-Pin Plastic Small Outline, Body 2.9 x 1.6 mm, 0.95 mm Pitch; Supplier 1: Digi-Key; Supplier Part Number 1: 296-23331-2-ND; Supplier 2: Digi-Key; Supplier Part Number 2: 296-23331-1-ND; Supplier 3: Digi-Key; Supplier Part Number 3: 296-23331-6-ND; Supplier 4: Newark; Supplier Part Number 4: 95M0131; Supplier 5: Mouser; Supplier Part Number 5: 595-TPS78001DDCR; Eco-Plan: Green (RoHS & no Sb/Br); Mounting Technology: Surface Mount; Code_JEDEC: MO-193; ComponentLink1Description: Manufacturer URL; ComponentLink1URL: http://www.ti.com/; ComponentLink2Description: Datasheet; ComponentLink2URL: http://www.ti.com/general/docs/lit/getliterature.tsp?genericPartNumber=TPS78001&fileType=pdf; ComponentLink3Description: Package Specification; ComponentLink3URL: http://www.ti.com/litv/pdf/mpds123d
footprint TI-DDC5_N (SOT23, 5-Leads, Body 2.9x1.6mm, Pitch 0.95mm, IPC Medium Density)
footprint TI-DDC5_L (SOT23, 5-Leads, Body 2.9x1.6mm, Pitch 0.95mm, IPC High Density)
footprint TI-DDC5_M (SOT23, 5-Leads, Body 2.9x1.6mm, Pitch 0.95mm, IPC Low Density)
pins: 1 IN (power) "Input pin. A small capacitor is needed from this pin to ground to assure stability. Typical input capacitor = 1.0uF. Both input and output capacitor grounds should be tied back to the IC ground with no significant impedance (See Datasheet)", 2 GND (power) "Ground pin.", 3 EN (in) "Driving the enable pin (EN) over 1.2V turns on the regulator. Driving this pin below 0.4V puts the regulator into shutdown mode, reducing operating current to 18nA typical.", 4 FB (in) "Feedback pin (FB) for adjustable versions", 5 OUT (power) "Regulated output voltage pin. A small 1-uF ceramic capacitor is needed from this pin to ground to assure stability.See Input and Output Capacitor Requirements in the Application Information section for more details."

## TPS78001DDCRG4
designator U?
Single Output LDO, 150 mA, Adjustable 1.22 to 5.25 V Output, 2.2 to 5.5 V Input, with 500 nA Quiescent Current, 5-pin SOT (DDC), -40 to 125 degC, Green (RoHS & no Sb/Br); Manufacturer: Texas Instruments; PartNumber: TPS78001DDCRG4; Accuracy(%): 3; Dynamic Voltage Scaling: TRUE; Iout(Max)(A): 0.15; Iq(Typ)(mA): 0.0005; SubFamily: Single Channel LDO; Vdo(Typ)(mV): 200; Vin(Max)(V): 5.5; Vin(Min)(V): 2.2; Vout Adj(Max)(V): 5.25; Vout Adj(Min)(V): 1.22; DatasheetVersion: SBVS083D; PackageVersion: 4204403-2/E; PackageReference: DDC5; PackageDescription: 5-Pin Plastic Small Outline, Body 2.9 x 1.6 mm, 0.95 mm Pitch; Supplier 1: Digi-Key; Supplier Part Number 1: TPS78001DDCRG4-ND; Supplier 2: Newark; Supplier Part Number 2: 03P5263; Supplier 3: Mouser; Supplier Part Number 3: 595-TPS78001DDCRG4; Eco-Plan: Green (RoHS & no Sb/Br); Mounting Technology: Surface Mount; Code_JEDEC: MO-193; ComponentLink1Description: Manufacturer URL; ComponentLink1URL: http://www.ti.com/; ComponentLink2Description: Datasheet; ComponentLink2URL: http://www.ti.com/general/docs/lit/getliterature.tsp?genericPartNumber=TPS78001&fileType=pdf; ComponentLink3Description: Package Specification; ComponentLink3URL: http://www.ti.com/litv/pdf/mpds123d
footprint TI-DDC5_N (SOT23, 5-Leads, Body 2.9x1.6mm, Pitch 0.95mm, IPC Medium Density)
footprint TI-DDC5_L (SOT23, 5-Leads, Body 2.9x1.6mm, Pitch 0.95mm, IPC High Density)
footprint TI-DDC5_M (SOT23, 5-Leads, Body 2.9x1.6mm, Pitch 0.95mm, IPC Low Density)
pins: 1 IN (power) "Input pin. A small capacitor is needed from this pin to ground to assure stability. Typical input capacitor = 1.0uF. Both input and output capacitor grounds should be tied back to the IC ground with no significant impedance (See Datasheet)", 2 GND (power) "Ground pin.", 3 EN (in) "Driving the enable pin (EN) over 1.2V turns on the regulator. Driving this pin below 0.4V puts the regulator into shutdown mode, reducing operating current to 18nA typical.", 4 FB (in) "Feedback pin (FB) for adjustable versions", 5 OUT (power) "Regulated output voltage pin. A small 1-uF ceramic capacitor is needed from this pin to ground to assure stability.See Input and Output Capacitor Requirements in the Application Information section for more details."

## TPS78001DDCT
designator U?
Single Output LDO, 150 mA, Adjustable 1.22 to 5.25 V Output, 2.2 to 5.5 V Input, with 500 nA Quiescent Current, 5-pin SOT (DDC), -40 to 125 degC, Green (RoHS & no Sb/Br); Manufacturer: Texas Instruments; PartNumber: TPS78001DDCT; Accuracy(%): 3; Dynamic Voltage Scaling: TRUE; Iout(Max)(A): 0.15; Iq(Typ)(mA): 0.0005; SubFamily: Single Channel LDO; Vdo(Typ)(mV): 200; Vin(Max)(V): 5.5; Vin(Min)(V): 2.2; Vout Adj(Max)(V): 5.25; Vout Adj(Min)(V): 1.22; DatasheetVersion: SBVS083D; PackageVersion: 4204403-2/E; PackageReference: DDC5; PackageDescription: 5-Pin Plastic Small Outline, Body 2.9 x 1.6 mm, 0.95 mm Pitch; Supplier 1: Digi-Key; Supplier Part Number 1: 296-27084-2-ND; Supplier 2: Digi-Key; Supplier Part Number 2: 296-27084-1-ND; Supplier 3: Digi-Key; Supplier Part Number 3: 296-27084-6-ND; Supplier 4: Farnell; Supplier Part Number 4: 1755648RL; Supplier 5: Farnell; Supplier Part Number 5: 1755648; Supplier 6: Newark; Supplier Part Number 6: 95M0132; Supplier 7: Mouser; Supplier Part Number 7: 595-TPS78001DDCT; Eco-Plan: Green (RoHS & no Sb/Br); Mounting Technology: Surface Mount; Code_JEDEC: MO-193; ComponentLink1Description: Manufacturer URL; ComponentLink1URL: http://www.ti.com/; ComponentLink2Description: Datasheet; ComponentLink2URL: http://www.ti.com/general/docs/lit/getliterature.tsp?genericPartNumber=TPS78001&fileType=pdf; ComponentLink3Description: Package Specification; ComponentLink3URL: http://www.ti.com/litv/pdf/mpds123d
footprint TI-DDC5_N (SOT23, 5-Leads, Body 2.9x1.6mm, Pitch 0.95mm, IPC Medium Density)
footprint TI-DDC5_L (SOT23, 5-Leads, Body 2.9x1.6mm, Pitch 0.95mm, IPC High Density)
footprint TI-DDC5_M (SOT23, 5-Leads, Body 2.9x1.6mm, Pitch 0.95mm, IPC Low Density)
pins: 1 IN (power) "Input pin. A small capacitor is needed from this pin to ground to assure stability. Typical input capacitor = 1.0uF. Both input and output capacitor grounds should be tied back to the IC ground with no significant impedance (See Datasheet)", 2 GND (power) "Ground pin.", 3 EN (in) "Driving the enable pin (EN) over 1.2V turns on the regulator. Driving this pin below 0.4V puts the regulator into shutdown mode, reducing operating current to 18nA typical.", 4 FB (in) "Feedback pin (FB) for adjustable versions", 5 OUT (power) "Regulated output voltage pin. A small 1-uF ceramic capacitor is needed from this pin to ground to assure stability.See Input and Output Capacitor Requirements in the Application Information section for more details."

## TPS78001DDCTG4
designator U?
Single Output LDO, 150 mA, Adjustable 1.22 to 5.25 V Output, 2.2 to 5.5 V Input, with 500 nA Quiescent Current, 5-pin SOT (DDC), -40 to 125 degC, Green (RoHS & no Sb/Br); Manufacturer: Texas Instruments; PartNumber: TPS78001DDCTG4; Accuracy(%): 3; Dynamic Voltage Scaling: TRUE; Iout(Max)(A): 0.15; Iq(Typ)(mA): 0.0005; SubFamily: Single Channel LDO; Vdo(Typ)(mV): 200; Vin(Max)(V): 5.5; Vin(Min)(V): 2.2; Vout Adj(Max)(V): 5.25; Vout Adj(Min)(V): 1.22; DatasheetVersion: SBVS083D; PackageVersion: 4204403-2/E; PackageReference: DDC5; PackageDescription: 5-Pin Plastic Small Outline, Body 2.9 x 1.6 mm, 0.95 mm Pitch; Supplier 1: Digi-Key; Supplier Part Number 1: TPS78001DDCTG4-ND; Supplier 2: Mouser; Supplier Part Number 2: 595-TPS78001DDCTG4; Eco-Plan: Green (RoHS & no Sb/Br); Mounting Technology: Surface Mount; Code_JEDEC: MO-193; ComponentLink1Description: Manufacturer URL; ComponentLink1URL: http://www.ti.com/; ComponentLink2Description: Datasheet; ComponentLink2URL: http://www.ti.com/general/docs/lit/getliterature.tsp?genericPartNumber=TPS78001&fileType=pdf; ComponentLink3Description: Package Specification; ComponentLink3URL: http://www.ti.com/litv/pdf/mpds123d
footprint TI-DDC5_N (SOT23, 5-Leads, Body 2.9x1.6mm, Pitch 0.95mm, IPC Medium Density)
footprint TI-DDC5_L (SOT23, 5-Leads, Body 2.9x1.6mm, Pitch 0.95mm, IPC High Density)
footprint TI-DDC5_M (SOT23, 5-Leads, Body 2.9x1.6mm, Pitch 0.95mm, IPC Low Density)
pins: 1 IN (power) "Input pin. A small capacitor is needed from this pin to ground to assure stability. Typical input capacitor = 1.0uF. Both input and output capacitor grounds should be tied back to the IC ground with no significant impedance (See Datasheet)", 2 GND (power) "Ground pin.", 3 EN (in) "Driving the enable pin (EN) over 1.2V turns on the regulator. Driving this pin below 0.4V puts the regulator into shutdown mode, reducing operating current to 18nA typical.", 4 FB (in) "Feedback pin (FB) for adjustable versions", 5 OUT (power) "Regulated output voltage pin. A small 1-uF ceramic capacitor is needed from this pin to ground to assure stability.See Input and Output Capacitor Requirements in the Application Information section for more details."